# EAGLE library part DG419 (library EVSE)
The DG419 is single-pole/double-throw (SPDT) with one normally closed switch and one normally open switch. Switching times are less than 175ns max for tON and less than 145ns max for tOFF. Operation is from a single +10V to +30V supply, or bipolar ±4.5V to ±20V supplies. The improved DG417/DG418/DG419 are fabricated with a 44V silicon-gate process. MAXIM <https://www.maximintegrated.com/en/products/analog/analog-switches-multiplexers/DG419.html>
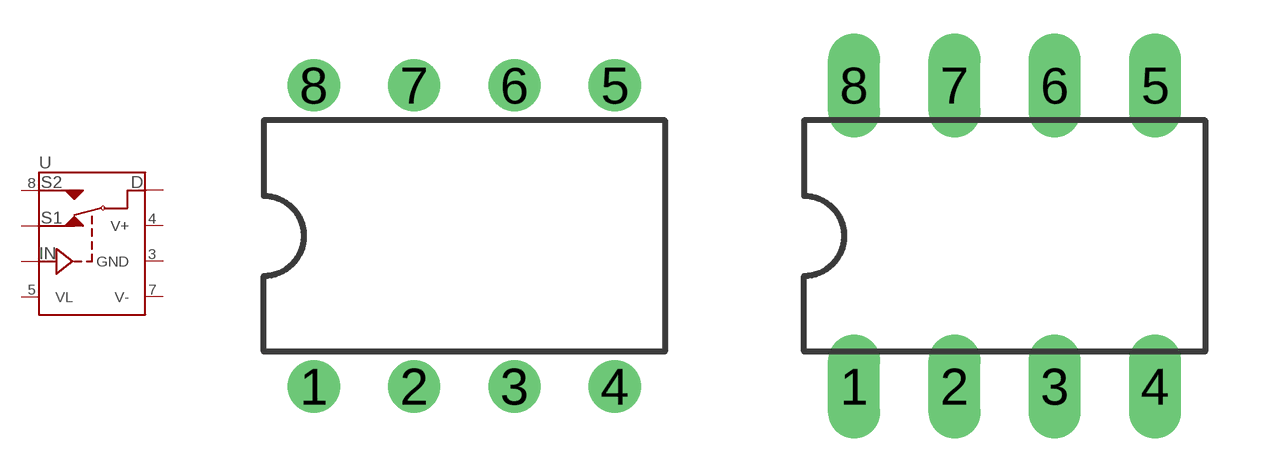
[diagram p0: symbol with the pads of DIL08; footprints DIL08, DIL08-LONG]

Designator prefix -

## DG419DJ  [DIL08]
1  D
2  S1  in
3  GND
4  V+
5  VL
6  IN
7  V-
8  S2  in

## DG419DJ-L  [DIL08-LONG]
Pads as for DIL08

## DG419DY  [SOIC127P600X144-8]
Pads as for DIL08

## Footprint DIL08 (pad centres in mm)
Dual In Line Package
drill 0.813 pad 1.27: 1 -3.81,-3.81; 2 -1.27,-3.81; 3 1.27,-3.81; 4 3.81,-3.81; 5 3.81,3.81; 6 1.27,3.81; 7 -1.27,3.81; 8 -3.81,3.81

## Footprint DIL08-LONG (pad centres in mm)
Dual In Line Package
drill 0.813 long: 1 -3.81,-3.81; 2 -1.27,-3.81; 3 1.27,-3.81; 4 3.81,-3.81; 5 3.81,3.81; 6 1.27,3.81; 7 -1.27,3.81; 8 -3.81,3.81

## Footprint SOIC127P600X144-8 (pad centres in mm)
8-SOIC, 1.27 mm pitch, 6.00 mm span, 4.90 X 3.90 X 1.44 mm body 8-pin SOIC package with 1.27 mm pitch, 6.00 mm span with body size 4.90 X 3.90 X 1.44 mm
smd 1.901 x 0.599: 1 -2.455,1.905; 2 -2.455,0.635; 3 -2.455,-0.635; 4 -2.455,-1.905; 5 2.455,-1.905; 6 2.455,-0.635; 7 2.455,0.635; 8 2.455,1.905